# Altium footprint library MK66FX1M0VMD18.PcbLib: 1 footprints
Each footprint in its own frame and in the unit in brackets; x right, y up, seen from the top. Pads: shape width x height; smd on the part's side, far side on the other; paste and mask are expansions set on the pad; w line width, h text height; cw(c..) or ccw(c..) is an arc to the next point about the centre after c.
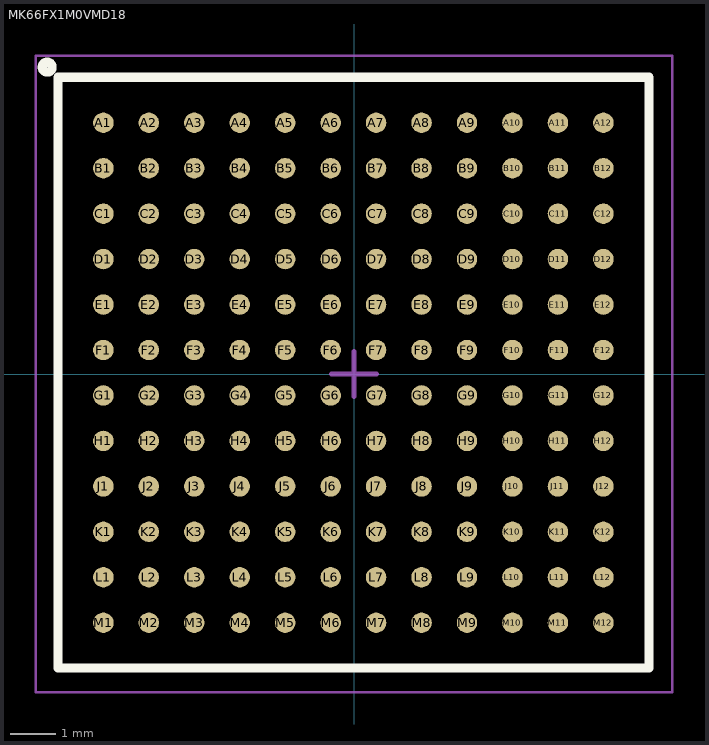
[diagram p0: the footprint, top view; thin cyan lines are the x and y axes]

## MK66FX1M0VMD18 [mm]
pads (144):
  round 0.45 smd: A1(-5.514,5.528) A2(-4.514,5.528) A3(-3.514,5.528) A4(-2.514,5.528) A5(-1.514,5.528) A6(-0.514,5.528) A7(0.486,5.528) A8(1.486,5.528) A9(2.486,5.528) A10(3.486,5.528) A11(4.486,5.528) A12(5.486,5.528) B1(-5.514,4.528) B2(-4.514,4.528) B3(-3.514,4.528) B4(-2.514,4.528) B5(-1.514,4.528) B6(-0.514,4.528) B7(0.486,4.528) B8(1.486,4.528) B9(2.486,4.528) B10(3.486,4.528) B11(4.486,4.528) B12(5.486,4.528) C1(-5.514,3.528) C2(-4.514,3.528) C3(-3.514,3.528) C4(-2.514,3.528) C5(-1.514,3.528) C6(-0.514,3.528) C7(0.486,3.528) C8(1.486,3.528) C9(2.486,3.528) C10(3.486,3.528) C11(4.486,3.528) C12(5.486,3.528) D1(-5.514,2.528) D2(-4.514,2.528) D3(-3.514,2.528) D4(-2.514,2.528) D5(-1.514,2.528) D6(-0.514,2.528) D7(0.486,2.528) D8(1.486,2.528) D9(2.486,2.528) D10(3.486,2.528) D11(4.486,2.528) D12(5.486,2.528) E1(-5.514,1.528) E2(-4.514,1.528) E3(-3.514,1.528) E4(-2.514,1.528) E5(-1.514,1.528) E6(-0.514,1.528) E7(0.486,1.528) E8(1.486,1.528) E9(2.486,1.528) E10(3.486,1.528) E11(4.486,1.528) E12(5.486,1.528) F1(-5.514,0.528) F2(-4.514,0.528) F3(-3.514,0.528) F4(-2.514,0.528) F5(-1.514,0.528) F6(-0.514,0.528) F7(0.486,0.528) F8(1.486,0.528) F9(2.486,0.528) F10(3.486,0.528) F11(4.486,0.528) F12(5.486,0.528) G1(-5.514,-0.472) G2(-4.514,-0.472) G3(-3.514,-0.472) G4(-2.514,-0.472) G5(-1.514,-0.472) G6(-0.514,-0.472) G7(0.486,-0.472) G8(1.486,-0.472) G9(2.486,-0.472) G10(3.486,-0.472) G11(4.486,-0.472) G12(5.486,-0.472) H1(-5.514,-1.472) H2(-4.514,-1.472) H3(-3.514,-1.472) H4(-2.514,-1.472) H5(-1.514,-1.472) H6(-0.514,-1.472) H7(0.486,-1.472) H8(1.486,-1.472) H9(2.486,-1.472) H10(3.486,-1.472) H11(4.486,-1.472) H12(5.486,-1.472) J1(-5.514,-2.472) J2(-4.514,-2.472) J3(-3.514,-2.472) J4(-2.514,-2.472) J5(-1.514,-2.472) J6(-0.514,-2.472) J7(0.486,-2.472) J8(1.486,-2.472) J9(2.486,-2.472) J10(3.486,-2.472) J11(4.486,-2.472) J12(5.486,-2.472) K1(-5.514,-3.472) K2(-4.514,-3.472) K3(-3.514,-3.472) K4(-2.514,-3.472) K5(-1.514,-3.472) K6(-0.514,-3.472) K7(0.486,-3.472) K8(1.486,-3.472) K9(2.486,-3.472) K10(3.486,-3.472) K11(4.486,-3.472) K12(5.486,-3.472) L1(-5.514,-4.472) L2(-4.514,-4.472) L3(-3.514,-4.472) L4(-2.514,-4.472) L5(-1.514,-4.472) L6(-0.514,-4.472) L7(0.486,-4.472) L8(1.486,-4.472) L9(2.486,-4.472) L10(3.486,-4.472) L11(4.486,-4.472) L12(5.486,-4.472) M1(-5.514,-5.472) M2(-4.514,-5.472) M3(-3.514,-5.472) M4(-2.514,-5.472) M5(-1.514,-5.472) M6(-0.514,-5.472) M7(0.486,-5.472) M8(1.486,-5.472) M9(2.486,-5.472) M10(3.486,-5.472) M11(4.486,-5.472) M12(5.486,-5.472)
Top Overlay:
  circle w0.2: c-6.75,6.75 r0.11
  lines w0.2: -6.514,-6.472 -6.514,6.528 6.486,6.528 6.486,-6.472 -6.514,-6.472
Mechanical 1:
  lines w0.1: -6.5,-6.5 6.5,-6.5 6.5,6.5 -6.5,6.5 -6.5,-6.5
  text ".Designator" at -3.375,-0.158 h0.65
Mechanical 2:
  lines w0.05: -7,-7 7,-7 7,7 -7,7 -7,-7
  lines w0.1: -0.5,0 0.5,0 ; 0,-0.5 0,0.5
3D body "MK66FX1M0VMD18--3DModel-STEP-56544.STEP": height 1.7, standoff 0, extent -6.514,-6.472 6.486,6.528